# Altium footprint library DFS.PcbLib: 1 footprints
Each footprint in its own frame and in the unit in brackets; x right, y up, seen from the top. Pads: shape width x height; smd on the part's side, far side on the other; paste and mask are expansions set on the pad; w line width, h text height; cw(c..) or ccw(c..) is an arc to the next point about the centre after c.
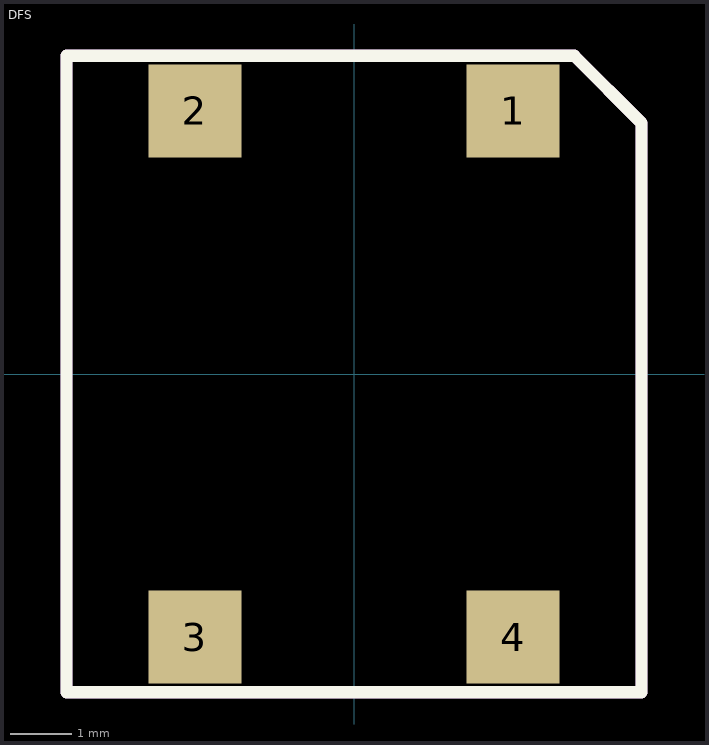
[diagram p0: the footprint, top view; thin cyan lines are the x and y axes]

## DFS [mm]
pads (4):
  rect 1.524x1.524 smd: 1(2.6,4.3) 2(-2.6,4.3) 3(-2.6,-4.3) 4(2.6,-4.3)
Top Overlay:
  lines w0.2: -4.7,-5.2 -4.7,5.2 3.6,5.2 4.7,4.1 4.7,-5.2 -4.7,-5.2
TopAssy:
  lines w0.2: -4.7,-5.2 -4.7,5.2 3.6,5.2 4.7,4.1 4.7,-5.2 -4.7,-5.2
  text ".Designator" at -2.5,-0.6 h1.52
3D body "User Library-Bridge rectifier DFS package-1.step": height 3.02, standoff 0, extent -4.4,-4.985 4.4,4.985